# Altium footprint library SOIC127P1034X264-28N.PcbLib: 1 footprints
Each footprint in its own frame and in the unit in brackets; x right, y up, seen from the top. Pads: shape width x height; smd on the part's side, far side on the other; paste and mask are expansions set on the pad; w line width, h text height; cw(c..) or ccw(c..) is an arc to the next point about the centre after c.
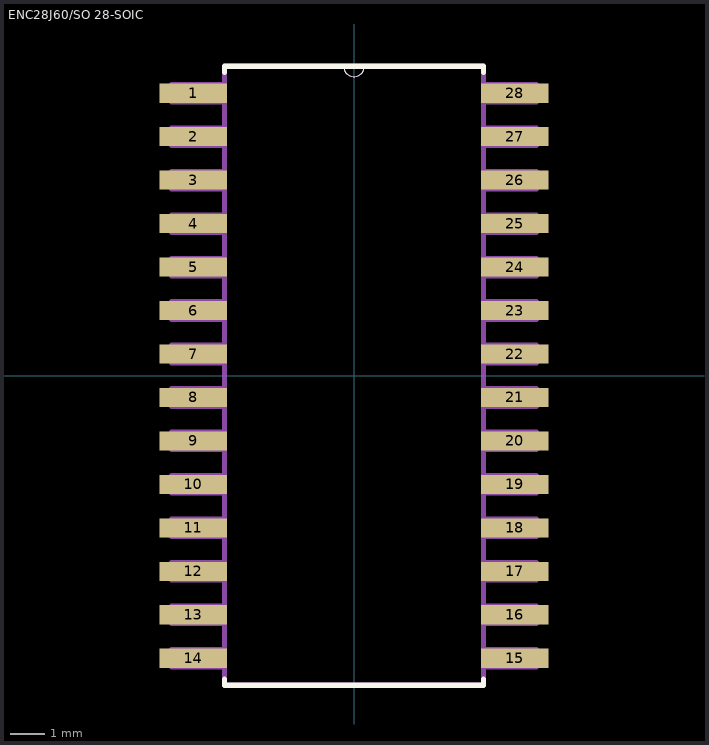
[diagram p0: the footprint, top view; thin cyan lines are the x and y axes]

## ENC28J60/SO 28-SOIC [mil] "ENC28J60/SO 28-SOIC SOIC127P1034X264-28N"
pads (28):
  rect 78x22 smd: 1(-185,325) 2(-185,275) 3(-185,225) 4(-185,175) 5(-185,125) 6(-185,75) 7(-185,25) 8(-185,-25) 9(-185,-75) 10(-185,-125) 11(-185,-175) 12(-185,-225) 13(-185,-275) 14(-185,-325) 15(185,-325) 16(185,-275) 17(185,-225) 18(185,-175) 19(185,-125) 20(185,-75) 21(185,-25) 22(185,25) 23(185,75) 24(185,125) 25(185,175) 26(185,225) 27(185,275) 28(185,325)
Top Overlay:
  lines w0: -12,356 ccw(c0,356) 12,356
  lines w6: -149,-349 -149,-356 149,-356 149,-349 ; -149,349 -149,356 -12,356 12,356 149,356 149,349
Assembly Top:
  lines w0: -12,356 ccw(c0,356) 12,356
  lines w6: -210,-335 -149,-335 -149,-315 -210,-315 -210,-335 ; -210,-285 -149,-285 -149,-265 -210,-265 -210,-285 ; -210,-235 -149,-235 -149,-215 -210,-215 -210,-235 ; -210,-185 -149,-185 -149,-165 -210,-165 -210,-185 ; -210,-135 -149,-135 -149,-115 -210,-115 -210,-135 ; -210,-85 -149,-85 -149,-65 -210,-65 -210,-85 ; -210,-35 -149,-35 -149,-15 -210,-15 -210,-35 ; -210,15 -149,15 -149,35 -210,35 -210,15 ; -210,65 -149,65 -149,85 -210,85 -210,65 ; -210,115 -149,115 -149,135 -210,135 -210,115 ; -210,165 -149,165 -149,185 -210,185 -210,165 ; -210,215 -149,215 -149,235 -210,235 -210,215 ; -210,265 -149,265 -149,285 -210,285 -210,265 ; -210,315 -149,315 -149,335 -210,335 -210,315 ; -149,-356 -149,356 -12,356 12,356 149,356 149,-356 -149,-356 ; 149,-335 210,-335 210,-315 149,-315 149,-335 ; 149,-285 210,-285 210,-265 149,-265 149,-285 ; 149,-235 210,-235 210,-215 149,-215 149,-235 ; 149,-185 210,-185 210,-165 149,-165 149,-185 ; 149,-135 210,-135 210,-115 149,-115 149,-135 ; 149,-85 210,-85 210,-65 149,-65 149,-85 ; 149,-35 210,-35 210,-15 149,-15 149,-35 ; 149,15 210,15 210,35 149,35 149,15 ; 149,65 210,65 210,85 149,85 149,65 ; 149,115 210,115 210,135 149,135 149,115 ; 149,165 210,165 210,185 149,185 149,165 ; 149,215 210,215 210,235 149,235 149,215 ; 149,265 210,265 210,285 149,285 149,265 ; 149,315 210,315 210,335 149,335 149,315
3D body "step_temp.STEP": height 104.33, standoff 0, extent -202.76,-352.36 202.76,352.36